# EAGLE library part BRICK_DC-DC_CONVERTER (library PowerComponents)
DRQ-12/50-L48 Series 600W Digital Fully Regulated Intermediate DC-DC Bus Converter
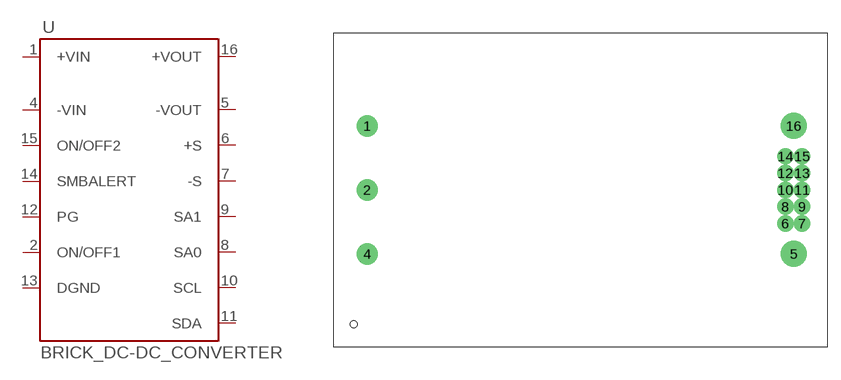
[diagram p1: symbol with the pads of BRICK_DC-DC_CONVERTER; footprint BRICK_DC-DC_CONVERTER]

Designator prefix -

## BRICK_DC-DC_CONVERTER  [BRICK_DC-DC_CONVERTER]
1  +VIN  pwr
2  ON/OFF1
4  -VIN  pwr
5  -VOUT  pwr
6  +S
7  -S
8  SA0
9  SA1
10  SCL
11  SDA
12  PG
13  DGND  pwr
14  SMBALERT
15  ON/OFF2
16  +VOUT  pwr

## Footprint BRICK_DC-DC_CONVERTER (pad centres in mm)
drill 1.52 pad 2.54: 1 -25.4,7.62; 2 -25.4,0; 4 -25.4,-7.62
drill 2.08 pad 3.05: 5 25.4,-7.62; 16 25.4,7.62
drill 1.3 pad 1.39: 6 24.4,-4; 7 26.4,-4; 8 24.4,-2; 9 26.4,-2; 10 24.4,0; 11 26.4,0; 12 24.4,2; 13 26.4,2; 14 24.4,4; 15 26.4,4